# Altium integrated library Connector Faston Series.IntLib: 3 symbols
Pins are listed as number, name and electrical type; pins without a type are passive.

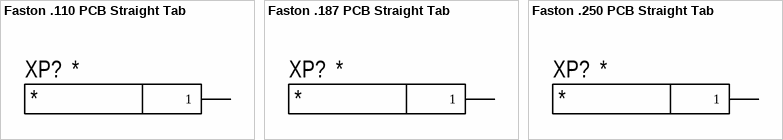
[diagram p0: symbols Faston .110 PCB Straight Tab to Faston .250 PCB Straight Tab]

## Faston .110 PCB Straight Tab
designator XP?  (value not drawn)
TE Connectivity FASTON .110 Series , Straight Mount Angle PCB Tab Terminal, 2.8 x 0.8mm Tin Plated; Manufacturer Part Number: 735427-2; ComponentLink1Description: TE Connectivity FASTON .110 Series(P/N 735427-2); ComponentLink1URL: https://www.te.com/commerce/DocumentDelivery/DDEController?Action=srchrtrv&DocNm=735427&DocType=Customer+Drawing&DocLang=English; Manufacture: TE Connectivity; ComponentLink2Description: Wiki; ComponentLink2URL: https://en.wikipedia.org/wiki/FASTON_terminal; Pin 1 Name: *; Name Connector: *
footprint Faston .110 (Faston .110  Series , Straight, PCB, 2.8 x 0.8mm)
pins: 1 "Pin 1"

## Faston .187 PCB Straight Tab
designator XP?  (value not drawn)
TE Connectivity FASTON .187 Series , Straight Mount Angle PCB Tab Terminal, 4.75 x 0.8mm Tin Plated; Manufacturer Part Number: 1212; Manufacture: Keystone Electronics; ComponentLink1Description: Keystone Electronics FASTON .187 Series(P/N 1212); ComponentLink1URL: http://www.keyelco.com/product-pdf.cfm?p=595; ComponentLink2Description: Wiki; ComponentLink2URL: https://en.wikipedia.org/wiki/FASTON_terminal; Pin 1 Name: *; Name Connector: *
footprint Faston .187 (Faston .187  Series , Straight, PCB, 4.75 x 0.8mm)
pins: 1 "Pin 1"

## Faston .250 PCB Straight Tab
designator XP?, comment Faston .187 PCB Straight Tab  (value not drawn)
TE Connectivity FASTON .250 Series , Straight Mount Angle PCB Tab Terminal, 6.35 x 0.8mm Tin Plated; Manufacturer Part Number: 1287; Manufacture: Keystone Electronics; ComponentLink1Description: Keystone Electronics FASTON .250 Series(P/N 1287); ComponentLink1URL: http://www.keyelco.com/product-pdf.cfm?p=610; ComponentLink2Description: Wiki; ComponentLink2URL: https://en.wikipedia.org/wiki/FASTON_terminal; Pin 1 Name: *; Name Connector: *
footprint Faston .250 (Faston .250  Series , Straight, PCB, 6.35 x 0.8mm)
pins: 1 "Pin 1"